# Altium footprint library PJT138K_R1_00001.PcbLib: 1 footprints
Each footprint in its own frame and in the unit in brackets; x right, y up, seen from the top. Pads: shape width x height; smd on the part's side, far side on the other; paste and mask are expansions set on the pad; w line width, h text height; cw(c..) or ccw(c..) is an arc to the next point about the centre after c.
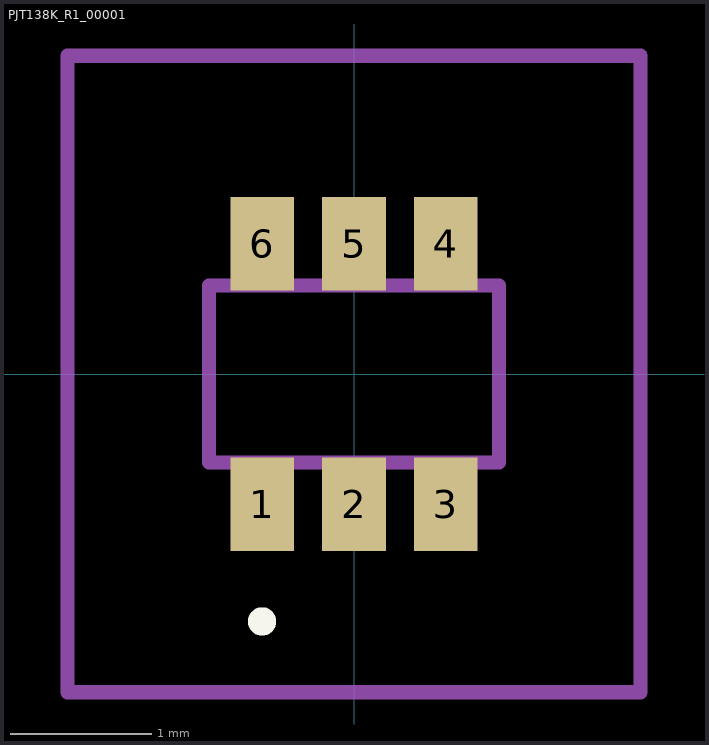
[diagram p0: the footprint, top view; thin cyan lines are the x and y axes]

## PJT138K_R1_00001 [mm]
pads (6):
  rect 0.45x0.66 smd: 1(-0.65,-0.92) 2(0,-0.92) 3(0.65,-0.92) 4(0.65,0.92) 5(0,0.92) 6(-0.65,0.92)
Top Overlay:
  lines w0.1: -0.65,-1.8 -0.65,-1.8 ; -0.65,-1.8 ccw(c-0.65,-1.75) -0.65,-1.7 ; -0.65,-1.8 cw(c-0.65,-1.75) -0.65,-1.7 ; -0.65,-1.7 -0.65,-1.7
Mechanical 15:
  lines w0.1: -1.025,-0.625 1.025,-0.625 1.025,0.625 -1.025,0.625 -1.025,-0.625
Mechanical 20:
  lines w0.1: -2.025,-2.25 2.025,-2.25 2.025,2.25 -2.025,2.25 -2.025,-2.25